# Altium schematic symbol library Schematics.SchLib: 14 symbols
Pins are listed as number, name and electrical type; pins without a type are passive.

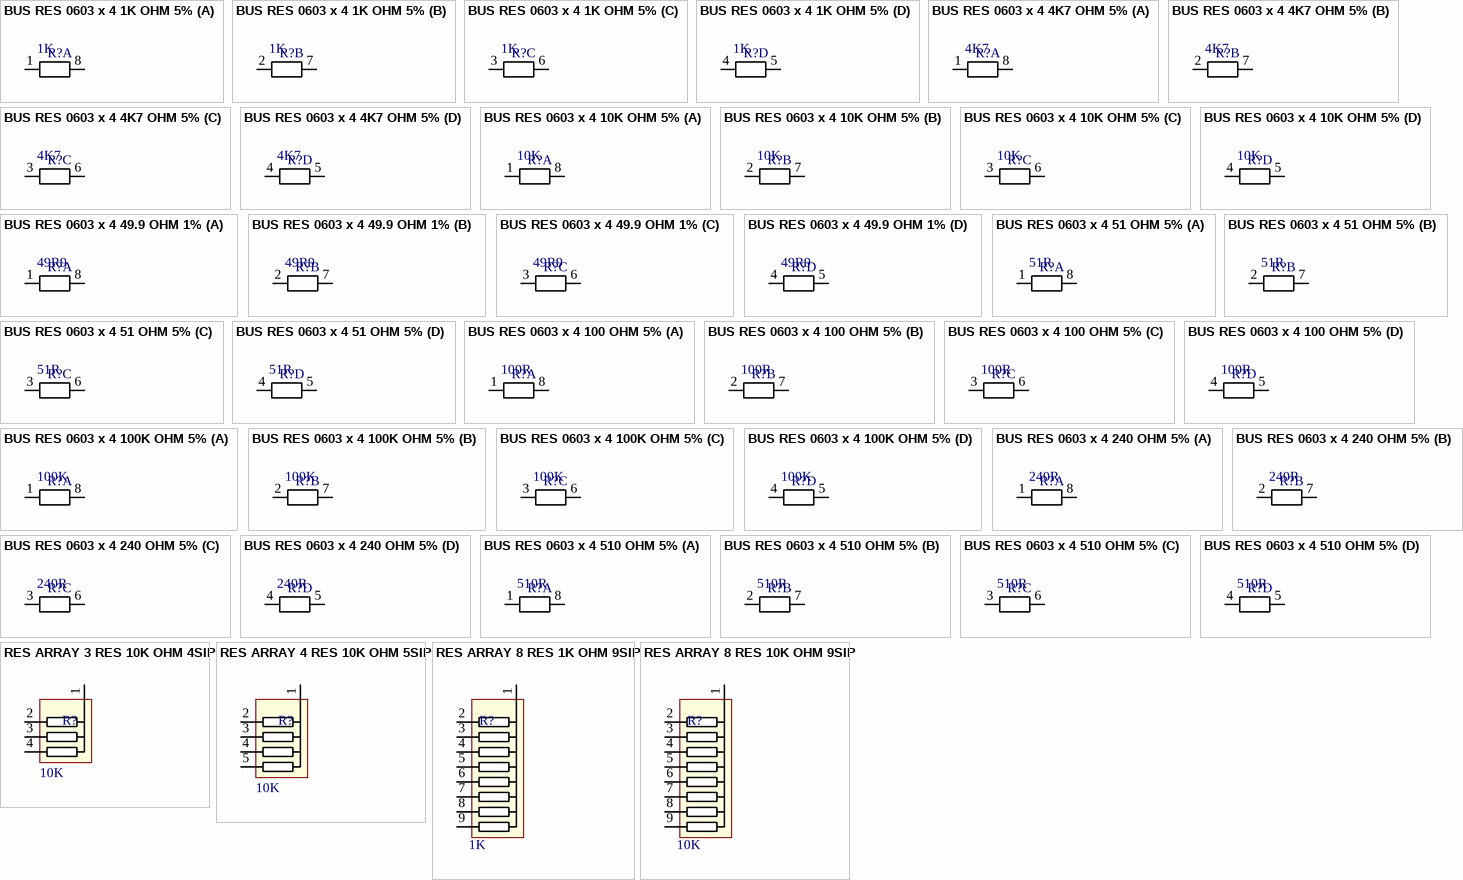
[diagram p0: symbols BUS RES 0603 x 4 1K OHM 5% to RES ARRAY 8 RES 10K OHM 9SIP]

## BUS RES 0603 x 4 1K OHM 5%
designator R?  value 1K  (hidden comment: BUS RES 0603 x 4 1K OHM 5%)
footprint LC-0603_Rx4
part A pins: 1, 8
part B pins: 2, 7
part C pins: 3, 6
part D pins: 4, 5

## BUS RES 0603 x 4 4K7 OHM 5%
designator R?  value 4K7  (hidden comment: BUS RES 0603 x 4 4K7 OHM 5%)
footprint LC-0603_Rx4
part A pins: 1, 8
part B pins: 2, 7
part C pins: 3, 6
part D pins: 4, 5

## BUS RES 0603 x 4 10K OHM 5%
designator R?  value 10K  (hidden comment: BUS RES 0603 x 4 10K OHM 5%)
footprint LC-0603_Rx4
part A pins: 1, 8
part B pins: 2, 7
part C pins: 3, 6
part D pins: 4, 5

## BUS RES 0603 x 4 49.9 OHM 1%
designator R?  value 49R9  (hidden comment: BUS RES 0603 x 4 49.9 OHM 1%)
footprint LC-0603_Rx4
part A pins: 1, 8
part B pins: 2, 7
part C pins: 3, 6
part D pins: 4, 5

## BUS RES 0603 x 4 51 OHM 5%
designator R?  value 51R  (hidden comment: BUS RES 0603 x 4 51 OHM 5%)
footprint LC-0603_Rx4
part A pins: 1, 8
part B pins: 2, 7
part C pins: 3, 6
part D pins: 4, 5

## BUS RES 0603 x 4 100 OHM 5%
designator R?  value 100R  (hidden comment: BUS RES 0603 x 4 100 OHM 5%)
footprint LC-0603_Rx4
part A pins: 1, 8
part B pins: 2, 7
part C pins: 3, 6
part D pins: 4, 5

## BUS RES 0603 x 4 100K OHM 5%
designator R?  value 100K  (hidden comment: BUS RES 0603 x 4 100K OHM 5%)
footprint LC-0603_Rx4
part A pins: 1, 8
part B pins: 2, 7
part C pins: 3, 6
part D pins: 4, 5

## BUS RES 0603 x 4 240 OHM 5%
designator R?  value 240R  (hidden comment: BUS RES 0603 x 4 240 OHM 5%)
footprint LC-0603_Rx4
part A pins: 1, 8
part B pins: 2, 7
part C pins: 3, 6
part D pins: 4, 5

## BUS RES 0603 x 4 510 OHM 5%
designator R?  value 510R  (hidden comment: BUS RES 0603 x 4 510 OHM 5%)
footprint LC-0603_Rx4
part A pins: 1, 8
part B pins: 2, 7
part C pins: 3, 6
part D pins: 4, 5

## RES ARRAY 3 RES 10K OHM 4SIP
designator R?  value 10K  (hidden comment: RES ARRAY 3 RES 10K OHM 4SIP)
footprint LC-SIP4-P-2.54A
pins: 1, 2, 3, 4

## RES ARRAY 4 RES 10K OHM 5SIP
designator R?  value 10K  (hidden comment: RES ARRAY 4 RES 10K OHM 5SIP)
footprint LC-SIP5-P-2.54A
pins: 1, 2, 3, 4, 5

## RES ARRAY 8 RES 1K OHM 9SIP
designator R?  value 1K  (hidden comment: RES ARRAY 8 RES 1K OHM 9SIP)
Supplier 1: Digi-Key; Supplier 2: Digi-Key; Supplier 3: Digi-Key; Supplier 4: Digi-Key; Supplier 5: Digi-Key; Supplier Part Number 1: CSC1.0KY-ND; Supplier Part Number 2: 987-1260-ND; Supplier Part Number 3: CSC1.0KW-ND; Supplier Part Number 4: 4309R-101-102LF-ND; Supplier Part Number 5: 4609X-101-102LF-ND
footprint LC-SIP9-P-2.54A
pins: 1, 2, 3, 4, 5, 6, 7, 8, 9

## RES ARRAY 8 RES 10K OHM 9SIP
designator R?  value 10K  (hidden comment: RES ARRAY 8 RES 10K OHM 9SIP)
footprint LC-SIP9-P-2.54A
pins: 1, 2, 3, 4, 5, 6, 7, 8, 9

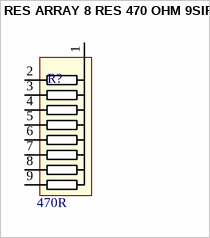
[diagram p1: symbol RES ARRAY 8 RES 470 OHM 9SIP]

## RES ARRAY 8 RES 470 OHM 9SIP
designator R?  value 470R  (hidden comment: RES ARRAY 8 RES 470 OHM 9SIP)
footprint LC-SIP9-P-2.54A
pins: 1, 2, 3, 4, 5, 6, 7, 8, 9